# Altium schematic symbol library QT325G-25.000MEEV-T.SchLib: 1 symbol
Pins are listed as number, name and electrical type; pins without a type are passive.

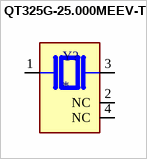
[diagram p0: symbol QT325G-25.000MEEV-T]

## QT325G-25.000MEEV-T
designator Y?
MF: {'manufacturer': u'QST PRODUCTS LLC'}; MP: QT325G-25.000MEEV-T; Package: None; Price: None; Value: *; Availability: Unavailable
footprint XTAL_QT325G-25.000MEEV-T
pins: 1, 2 NC, 3 2, 4 NC